# EAGLE library part 6623XX231822_662316231822 (library WR-MPC3)
WR-MPC3 3.00 mm SMT Male Dual Row Vertical Header with SMT Solder Tab (Reel) KIND PROPERTIES Pitch 3 mm Gender Male MATERIAL PROPERTIES Insulator Material LCP Insulator Flammability Rating UL94 V-0 Insulator Color Black Contact Material Copper Alloy Contact Plating Tin Contact Type Stamped GENERAL INFORMATION Operating Temperature -40 up to +105 °C Working Voltage 250 V (AC) Withstanding Voltage 1500 V (AC) Contact Resistance 10 mΩ RISO 1000 MΩ CERTIFICATION UL Approval E323964 WIRE PROPERTIES Packaging Tape and Reel with Cap <https://katalog.we-online.com/media/images/v2/o33177v209%20Family_WR-MPC3_662xxx231822.jpg> Details see: https://katalog.we-online.com/en/em/MPC3_3_00_SMT_MALE_DUAL_ROW_VERTICAL_HEADER_W_SMT_SOLDER_TAB_REEL_6623XX231822 Created by Yingchun,Shan 2019-11-13 2019 (C) Würth Elektronik
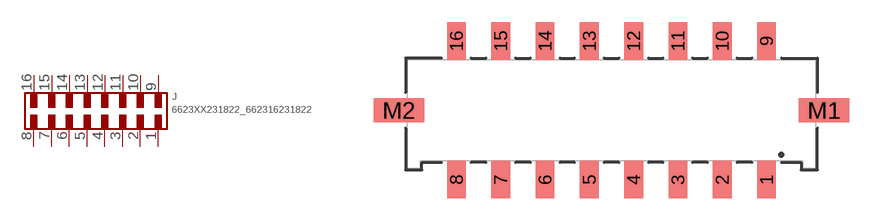
[diagram p78: symbol with the pads of 662316231822; footprint 662316231822]

Designator prefix J

## 6623XX231822_662316231822 (CONTACT-RESISTANCE: 10Ohm; DATASHEET-URL: https://www.we-online.com/redexpert/spec/662316231822?ae; GENDER: Male; IR: 5A; MOUNT: SMT; PART-NUMBER: 662316231822; PINS: 16; PITCH: 3mm; ROWS: Dual; TOL-R: max.; TYPE: Vertical; VALUE: 662316231822; WORKING-VOLTAGE: 250V(AC))  [662316231822]
1  1  pas
2  2  pas
3  3  pas
4  4  pas
5  5  pas
6  6  pas
7  7  pas
8  8  pas
9  9  pas
10  10  pas
11  11  pas
12  12  pas
13  13  pas
14  14  pas
15  15  pas
16  16  pas

## Footprint 662316231822 (pad centres in mm)
WR-MPC3 3.00 mm SMT Male Dual Row Vertical Header with SMT Solder Tab (Reel),16Pins
smd 1.27 x 2.54: 1 10.5,-4.7; 2 7.5,-4.7; 3 4.5,-4.7; 4 1.5,-4.7; 5 -1.5,-4.7; 6 -4.5,-4.7; 7 -7.5,-4.7; 8 -10.5,-4.7; 9 10.5,4.7; 10 7.5,4.7; 11 4.5,4.7; 12 1.5,4.7; 13 -1.5,4.7; 14 -4.5,4.7; 15 -7.5,4.7; 16 -10.5,4.7
smd 3.43 x 1.65: M1 14.395,0; M2 -14.395,0